# Altium integrated library NSC LDO.IntLib: 2590 symbols (part 38 of 64)
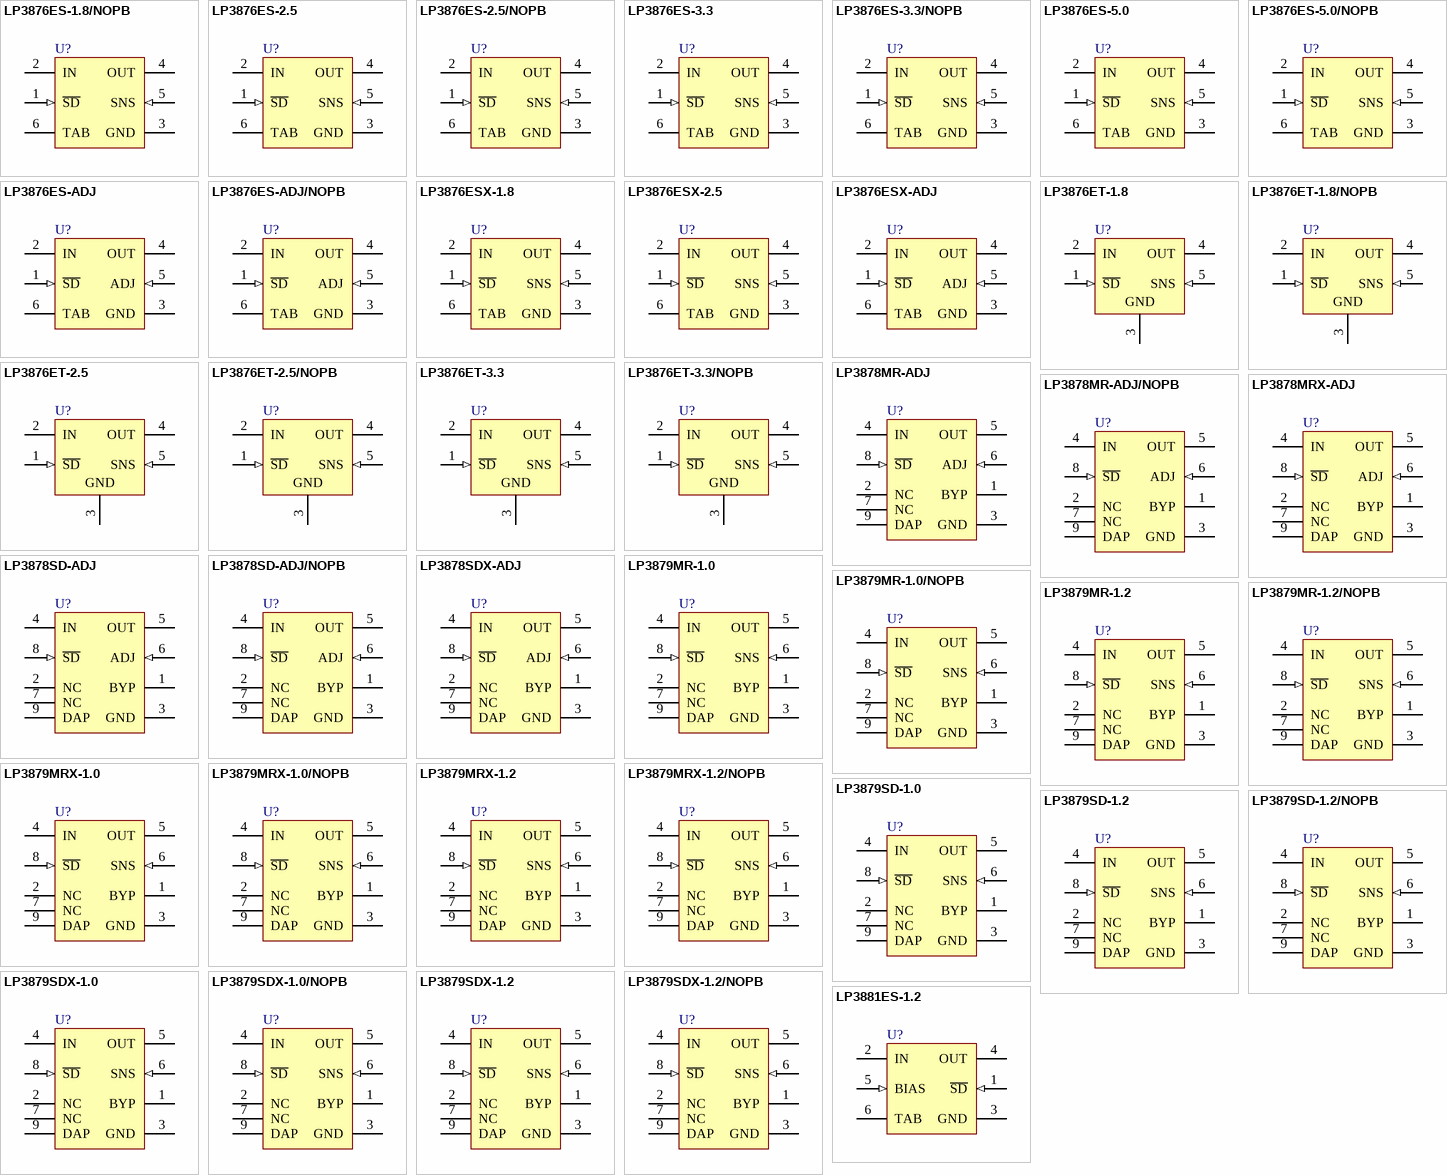
[diagram p102: symbols LP3876ES-1.8/NOPB to LP3881ES-1.2]

## LP3876ET-2.5/NOPB
designator U?
3A Fast Ultra Low Dropout Linear Regulator, 5-pin TO-220, Pb-Free; PartNumber: LP3876ET-2.5/NOPB; Manufacturer: National Semiconductor; PackageTopMarking: NSUZXYTTE#*LP3876ET*-2.5; PowerWise: N; CompType: LDO IC; Published: 1-Mar-2010; DatasheetVersion: Sep-2006; PackageVersion: revA, Oct-1989; PackageReference: T05D; Publisher: Altium Limited; PackageDescription: TO-220, Molded, Stagger Bend, 5 Lead; Supplier 1: Digi-Key; Supplier Part Number 1: LP3876ET-2.5-ND; RoHS: Y; PinCount: 5; ComponentLink1Description: LP3876 Datasheet; ComponentLink1URL: http://www.national.com/ds/LP/LP3876.pdf; ComponentLink2Description: LP3876 Web Page; ComponentLink2URL: http://www.national.com/pf/LP/LP3876.html; ComponentLink3Description: T05D Package Page; ComponentLink3URL: http://www.national.com/packaging/folders/t05d.html
footprint T05D (TO, Thru-Hole, Vertical, Heatsink Mounted; 5 Bent Staggered Leads; Body 10.3x8.6x4.6mm, Pitch 1.7 mm)
pins: 1 ~{SD} (in), 2 IN (power), 3 GND (power), 4 OUT (power), 5 SNS (in)

## LP3876ET-3.3
designator U?
3A Fast Ultra Low Dropout Linear Regulator, 5-pin TO-220; PartNumber: LP3876ET-3.3; Manufacturer: National Semiconductor; PackageTopMarking: NSUZXYTTE#*LP3876ET*-3.3; PowerWise: N; CompType: LDO IC; Published: 4-Dec-2008; DatasheetVersion: Sep-2006; PackageVersion: revA, Oct-1989; PackageReference: T05D; Publisher: Altium Limited; PackageDescription: TO-220, Molded, Stagger Bend, 5 Lead; Supplier 1: Farnell; Supplier Part Number 1: 8207038; RoHS: N; PinCount: 5; ComponentLink1Description: LP3876 Datasheet; ComponentLink1URL: http://www.national.com/ds/LP/LP3876.pdf; ComponentLink2Description: LP3876 Web Page; ComponentLink2URL: http://www.national.com/pf/LP/LP3876.html; ComponentLink3Description: T05D Package Page; ComponentLink3URL: http://www.national.com/packaging/folders/t05d.html
footprint T05D (TO, Thru-Hole, Vertical, Heatsink Mounted; 5 Bent Staggered Leads; Body 10.3x8.6x4.6mm, Pitch 1.7 mm)
pins: 1 ~{SD} (in), 2 IN (power), 3 GND (power), 4 OUT (power), 5 SNS (in)

## LP3876ET-3.3/NOPB
designator U?
3A Fast Ultra Low Dropout Linear Regulator, 5-pin TO-220, Pb-Free; PartNumber: LP3876ET-3.3/NOPB; Manufacturer: National Semiconductor; PackageTopMarking: NSUZXYTTE#*LP3876ET*-3.3; PowerWise: N; CompType: LDO IC; Published: 1-Mar-2010; DatasheetVersion: Sep-2006; PackageVersion: revA, Oct-1989; PackageReference: T05D; Publisher: Altium Limited; PackageDescription: TO-220, Molded, Stagger Bend, 5 Lead; Supplier 1: Digi-Key; Supplier Part Number 1: LP3876ET-3.3-ND; RoHS: Y; PinCount: 5; ComponentLink1Description: LP3876 Datasheet; ComponentLink1URL: http://www.national.com/ds/LP/LP3876.pdf; ComponentLink2Description: LP3876 Web Page; ComponentLink2URL: http://www.national.com/pf/LP/LP3876.html; ComponentLink3Description: T05D Package Page; ComponentLink3URL: http://www.national.com/packaging/folders/t05d.html
footprint T05D (TO, Thru-Hole, Vertical, Heatsink Mounted; 5 Bent Staggered Leads; Body 10.3x8.6x4.6mm, Pitch 1.7 mm)
pins: 1 ~{SD} (in), 2 IN (power), 3 GND (power), 4 OUT (power), 5 SNS (in)

## LP3878MR-ADJ
designator U?
Micropower 800mA Low Noise 'Ceramic Stable' Adjustable Voltage Regulator for 1V to 5V Applications, 8-pin PSOP; PartNumber: LP3878MR-ADJ; Manufacturer: National Semiconductor; PackageTopMarking: NSXYTT*3878*MRADJ; PowerWise: N; CompType: LDO IC; Published: 4-Dec-2008; DatasheetVersion: May-2005; PackageVersion: revD, Dec-2007; PackageReference: MRA08A; Publisher: Altium Limited; PackageDescription: Molded, PSOP .193 x .154 x .058in, 8 Lead, .050in Pitch; Supplier 1: Farnell; Supplier Part Number 1: 1286784; RoHS: N; PinCount: 8; Code_JEDEC: MS-012-AA; ComponentLink1Description: LP3878-ADJ Datasheet; ComponentLink1URL: http://www.national.com/ds/LP/LP3878-ADJ.pdf; ComponentLink2Description: LP3878-ADJ Web Page; ComponentLink2URL: http://www.national.com/pf/LP/LP3878-ADJ.html; ComponentLink3Description: MRA08A Package Page; ComponentLink3URL: http://www.national.com/packaging/folders/mra08a.html
footprint MRA08A_N (SOIC, 8-Leads, Body 4.9x3.9mm, Pitch 1.27mm, Exposed Pad, IPC Medium Density)
footprint MRA08A_L (SOIC, 8-Leads, Body 4.9x3.9mm, Pitch 1.27mm, Exposed Pad, IPC High Density)
footprint MRA08A_M (SOIC, 8-Leads, Body 4.9x3.9mm, Pitch 1.27mm, Exposed Pad, IPC Low Density)
pins: 1 BYP, 2 NC, 3 GND (power), 4 IN (power), 5 OUT (power), 6 ADJ (in), 7 NC, 8 ~{SD} (in), 9 DAP (power)

## LP3878MR-ADJ/NOPB
designator U?
Micropower 800mA Low Noise "Ceramic Stable" Adjustable Voltage Regulator for 1V to 5V Applications, 8-pin PSOP, Pb-Free; PartNumber: LP3878MR-ADJ/NOPB; Manufacturer: National Semiconductor; PackageTopMarking: NSXYTT*3878*MRADJ; PowerWise: N; CompType: LDO IC; Published: 1-Mar-2010; DatasheetVersion: May-2005; PackageVersion: revD, Dec-2007; PackageReference: MRA08A; Publisher: Altium Limited; PackageDescription: Molded, PSOP .193 x .154 x .058in, 8 Lead, .050in Pitch; Supplier 1: Digi-Key; Supplier Part Number 1: LP3878MR-ADJ-ND; Supplier 2: Farnell; Supplier Part Number 2: 1654349; RoHS: Y; PinCount: 8; Code_JEDEC: MS-012-AA; ComponentLink1Description: LP3878-ADJ Datasheet; ComponentLink1URL: http://www.national.com/ds/LP/LP3878-ADJ.pdf; ComponentLink2Description: LP3878-ADJ Web Page; ComponentLink2URL: http://www.national.com/pf/LP/LP3878-ADJ.html; ComponentLink3Description: MRA08A Package Page; ComponentLink3URL: http://www.national.com/packaging/folders/mra08a.html
footprint MRA08A_N (SOIC, 8-Leads, Body 4.9x3.9mm, Pitch 1.27mm, Exposed Pad, IPC Medium Density)
footprint MRA08A_L (SOIC, 8-Leads, Body 4.9x3.9mm, Pitch 1.27mm, Exposed Pad, IPC High Density)
footprint MRA08A_M (SOIC, 8-Leads, Body 4.9x3.9mm, Pitch 1.27mm, Exposed Pad, IPC Low Density)
pins: 1 BYP, 2 NC, 3 GND (power), 4 IN (power), 5 OUT (power), 6 ADJ (in), 7 NC, 8 ~{SD} (in), 9 DAP (power)

## LP3878MRX-ADJ
designator U?
Micropower 800mA Low Noise "Ceramic Stable" Adjustable Voltage Regulator for 1V to 5V Applications, 8-pin PSOP; PartNumber: LP3878MRX-ADJ; Manufacturer: National Semiconductor; PackageTopMarking: NSXYTT*3878*MRADJ; PowerWise: N; CompType: LDO IC; Published: 1-Mar-2010; DatasheetVersion: May-2005; PackageVersion: revD, Dec-2007; PackageReference: MRA08A; Publisher: Altium Limited; PackageDescription: Molded, PSOP .193 x .154 x .058in, 8 Lead, .050in Pitch; RoHS: N; PinCount: 8; Code_JEDEC: MS-012-AA; ComponentLink1Description: LP3878-ADJ Datasheet; ComponentLink1URL: http://www.national.com/ds/LP/LP3878-ADJ.pdf; ComponentLink2Description: LP3878-ADJ Web Page; ComponentLink2URL: http://www.national.com/pf/LP/LP3878-ADJ.html; ComponentLink3Description: MRA08A Package Page; ComponentLink3URL: http://www.national.com/packaging/folders/mra08a.html
footprint MRA08A_N (SOIC, 8-Leads, Body 4.9x3.9mm, Pitch 1.27mm, Exposed Pad, IPC Medium Density)
footprint MRA08A_L (SOIC, 8-Leads, Body 4.9x3.9mm, Pitch 1.27mm, Exposed Pad, IPC High Density)
footprint MRA08A_M (SOIC, 8-Leads, Body 4.9x3.9mm, Pitch 1.27mm, Exposed Pad, IPC Low Density)
pins: 1 BYP, 2 NC, 3 GND (power), 4 IN (power), 5 OUT (power), 6 ADJ (in), 7 NC, 8 ~{SD} (in), 9 DAP (power)

## LP3878SD-ADJ
designator U?
Micropower 800mA Low Noise 'Ceramic Stable' Adjustable Voltage Regulator for 1V to 5V Applications, 8-pin LLP; PartNumber: LP3878SD-ADJ; Manufacturer: National Semiconductor; PackageTopMarking: NS*UZXYTT*3878ADJ; PowerWise: N; CompType: LDO IC; Published: 4-Dec-2008; DatasheetVersion: May-2005; PackageVersion: revA, Jun-2003; PackageReference: SDC08A; Publisher: Altium Limited; PackageDescription: LLP, Plastic, Dual, 4 x 4 x 0.8mm Body, 8 Lead, 0.8mm Pitch, No Pullback; RoHS: N; PinCount: 8; ComponentLink1Description: LP3878-ADJ Datasheet; ComponentLink1URL: http://www.national.com/ds/LP/LP3878-ADJ.pdf; ComponentLink2Description: LP3878-ADJ Web Page; ComponentLink2URL: http://www.national.com/pf/LP/LP3878-ADJ.html; ComponentLink3Description: SDC08A Package Page; ComponentLink3URL: http://www.national.com/packaging/folders/sdc08a.html
footprint SDC08A (SON, 8-Leads, Body 4x4mm, Pitch 0.8mm, NSC Recommended)
pins: 1 BYP, 2 NC, 3 GND (power), 4 IN (power), 5 OUT (power), 6 ADJ (in), 7 NC, 8 ~{SD} (in), 9 DAP (power)

## LP3878SD-ADJ/NOPB
designator U?
Micropower 800mA Low Noise "Ceramic Stable" Adjustable Voltage Regulator for 1V to 5V Applications, 8-pin LLP, Pb-Free; PartNumber: LP3878SD-ADJ/NOPB; Manufacturer: National Semiconductor; PackageTopMarking: NS*UZXYTT*3878ADJ; PowerWise: N; CompType: LDO IC; Published: 1-Mar-2010; DatasheetVersion: May-2005; PackageVersion: revA, Jun-2003; PackageReference: SDC08A; Publisher: Altium Limited; PackageDescription: LLP, Plastic, Dual, 4 x 4 x 0.8mm Body, 8 Lead, 0.8mm Pitch, No Pullback; Supplier 1: Digi-Key; Supplier Part Number 1: LP3878SD-ADJTR-ND; Supplier 2: Digi-Key; Supplier Part Number 2: LP3878SD-ADJCT-ND; Supplier 3: Digi-Key; Supplier Part Number 3: LP3878SD-ADJDKR-ND; Supplier 4: Farnell; Supplier Part Number 4: 1685758; RoHS: Y; PinCount: 8; ComponentLink1Description: LP3878-ADJ Datasheet; ComponentLink1URL: http://www.national.com/ds/LP/LP3878-ADJ.pdf; ComponentLink2Description: LP3878-ADJ Web Page; ComponentLink2URL: http://www.national.com/pf/LP/LP3878-ADJ.html; ComponentLink3Description: SDC08A Package Page; ComponentLink3URL: http://www.national.com/packaging/folders/sdc08a.html
footprint SDC08A (SON, 8-Leads, Body 4x4mm, Pitch 0.8mm, NSC Recommended)
pins: 1 BYP, 2 NC, 3 GND (power), 4 IN (power), 5 OUT (power), 6 ADJ (in), 7 NC, 8 ~{SD} (in), 9 DAP (power)

## LP3878SDX-ADJ
designator U?
Micropower 800mA Low Noise "Ceramic Stable" Adjustable Voltage Regulator for 1V to 5V Applications, 8-pin LLP; PartNumber: LP3878SDX-ADJ; Manufacturer: National Semiconductor; PackageTopMarking: NS*UZXYTT*3878ADJ; PowerWise: N; CompType: LDO IC; Published: 1-Mar-2010; DatasheetVersion: May-2005; PackageVersion: revA, Jun-2003; PackageReference: SDC08A; Publisher: Altium Limited; PackageDescription: LLP, Plastic, Dual, 4 x 4 x 0.8mm Body, 8 Lead, 0.8mm Pitch, No Pullback; RoHS: N; PinCount: 8; ComponentLink1Description: LP3878-ADJ Datasheet; ComponentLink1URL: http://www.national.com/ds/LP/LP3878-ADJ.pdf; ComponentLink2Description: LP3878-ADJ Web Page; ComponentLink2URL: http://www.national.com/pf/LP/LP3878-ADJ.html; ComponentLink3Description: SDC08A Package Page; ComponentLink3URL: http://www.national.com/packaging/folders/sdc08a.html
footprint SDC08A (SON, 8-Leads, Body 4x4mm, Pitch 0.8mm, NSC Recommended)
pins: 1 BYP, 2 NC, 3 GND (power), 4 IN (power), 5 OUT (power), 6 ADJ (in), 7 NC, 8 ~{SD} (in), 9 DAP (power)

## LP3879MR-1.0
designator U?
Micropower 800mA Low Noise 'Ceramic Stable' Voltage Regulator for Low Voltage Applications, 8-pin PSOP; PartNumber: LP3879MR-1.0; Manufacturer: National Semiconductor; PackageTopMarking: NSXYTT*3879*MR1.0; PowerWise: N; CompType: LDO IC; Published: 4-Dec-2008; DatasheetVersion: Jun-2006; PackageVersion: revD, Dec-2007; PackageReference: MRA08A; Publisher: Altium Limited; PackageDescription: Molded, PSOP .193 x .154 x .058in, 8 Lead, .050in Pitch; Supplier 1: Farnell; Supplier Part Number 1: 1554782; RoHS: N; PinCount: 8; Code_JEDEC: MS-012-AA; ComponentLink1Description: LP3879 Datasheet; ComponentLink1URL: http://www.national.com/ds/LP/LP3879.pdf; ComponentLink2Description: LP3879 Web Page; ComponentLink2URL: http://www.national.com/pf/LP/LP3879.html; ComponentLink3Description: MRA08A Package Page; ComponentLink3URL: http://www.national.com/packaging/folders/mra08a.html
footprint MRA08A_N (SOIC, 8-Leads, Body 4.9x3.9mm, Pitch 1.27mm, Exposed Pad, IPC Medium Density)
footprint MRA08A_L (SOIC, 8-Leads, Body 4.9x3.9mm, Pitch 1.27mm, Exposed Pad, IPC High Density)
footprint MRA08A_M (SOIC, 8-Leads, Body 4.9x3.9mm, Pitch 1.27mm, Exposed Pad, IPC Low Density)
pins: 1 BYP, 2 NC, 3 GND (power), 4 IN (power), 5 OUT (power), 6 SNS (in), 7 NC, 8 ~{SD} (in), 9 DAP (power)

## LP3879MR-1.0/NOPB
designator U?
Micropower 800mA Low Noise 'Ceramic Stable' Voltage Regulator for Low Voltage Applications, 8-pin PSOP, Pb-Free; PartNumber: LP3879MR-1.0/NOPB; Manufacturer: National Semiconductor; PackageTopMarking: NSXYTT*3879*MR1.0; PowerWise: N; CompType: LDO IC; Published: 1-Mar-2010; DatasheetVersion: Jun-2006; PackageVersion: revD, Dec-2007; PackageReference: MRA08A; Publisher: Altium Limited; PackageDescription: Molded, PSOP .193 x .154 x .058in, 8 Lead, .050in Pitch; Supplier 1: Digi-Key; Supplier Part Number 1: LP3879MR-1.0-ND; Supplier 2: Farnell; Supplier Part Number 2: 1559835; RoHS: Y; PinCount: 8; Code_JEDEC: MS-012-AA; ComponentLink1Description: LP3879 Datasheet; ComponentLink1URL: http://www.national.com/ds/LP/LP3879.pdf; ComponentLink2Description: LP3879 Web Page; ComponentLink2URL: http://www.national.com/pf/LP/LP3879.html; ComponentLink3Description: MRA08A Package Page; ComponentLink3URL: http://www.national.com/packaging/folders/mra08a.html
footprint MRA08A_N (SOIC, 8-Leads, Body 4.9x3.9mm, Pitch 1.27mm, Exposed Pad, IPC Medium Density)
footprint MRA08A_L (SOIC, 8-Leads, Body 4.9x3.9mm, Pitch 1.27mm, Exposed Pad, IPC High Density)
footprint MRA08A_M (SOIC, 8-Leads, Body 4.9x3.9mm, Pitch 1.27mm, Exposed Pad, IPC Low Density)
pins: 1 BYP, 2 NC, 3 GND (power), 4 IN (power), 5 OUT (power), 6 SNS (in), 7 NC, 8 ~{SD} (in), 9 DAP (power)

## LP3879MR-1.2
designator U?
Micropower 800mA Low Noise 'Ceramic Stable' Voltage Regulator for Low Voltage Applications, 8-pin PSOP; PartNumber: LP3879MR-1.2; Manufacturer: National Semiconductor; PackageTopMarking: NSXYTT*LP3879*MR1.2; PowerWise: N; CompType: LDO IC; Published: 4-Dec-2008; DatasheetVersion: Jun-2006; PackageVersion: revD, Dec-2007; PackageReference: MRA08A; Publisher: Altium Limited; PackageDescription: Molded, PSOP .193 x .154 x .058in, 8 Lead, .050in Pitch; Supplier 1: Farnell; Supplier Part Number 1: 1554783; RoHS: N; PinCount: 8; Code_JEDEC: MS-012-AA; ComponentLink1Description: LP3879 Datasheet; ComponentLink1URL: http://www.national.com/ds/LP/LP3879.pdf; ComponentLink2Description: LP3879 Web Page; ComponentLink2URL: http://www.national.com/pf/LP/LP3879.html; ComponentLink3Description: MRA08A Package Page; ComponentLink3URL: http://www.national.com/packaging/folders/mra08a.html
footprint MRA08A_N (SOIC, 8-Leads, Body 4.9x3.9mm, Pitch 1.27mm, Exposed Pad, IPC Medium Density)
footprint MRA08A_L (SOIC, 8-Leads, Body 4.9x3.9mm, Pitch 1.27mm, Exposed Pad, IPC High Density)
footprint MRA08A_M (SOIC, 8-Leads, Body 4.9x3.9mm, Pitch 1.27mm, Exposed Pad, IPC Low Density)
pins: 1 BYP, 2 NC, 3 GND (power), 4 IN (power), 5 OUT (power), 6 SNS (in), 7 NC, 8 ~{SD} (in), 9 DAP (power)

## LP3879MR-1.2/NOPB
designator U?
Micropower 800mA Low Noise 'Ceramic Stable' Voltage Regulator for Low Voltage Applications, 8-pin PSOP, Pb-Free; PartNumber: LP3879MR-1.2/NOPB; Manufacturer: National Semiconductor; PackageTopMarking: NSXYTT*LP3879*MR1.2; PowerWise: N; CompType: LDO IC; Published: 1-Mar-2010; DatasheetVersion: Jun-2006; PackageVersion: revD, Dec-2007; PackageReference: MRA08A; Publisher: Altium Limited; PackageDescription: Molded, PSOP .193 x .154 x .058in, 8 Lead, .050in Pitch; Supplier 1: Digi-Key; Supplier Part Number 1: LP3879MR-1.2-ND; Supplier 2: Farnell; Supplier Part Number 2: 1559877; RoHS: Y; PinCount: 8; Code_JEDEC: MS-012-AA; ComponentLink1Description: LP3879 Datasheet; ComponentLink1URL: http://www.national.com/ds/LP/LP3879.pdf; ComponentLink2Description: LP3879 Web Page; ComponentLink2URL: http://www.national.com/pf/LP/LP3879.html; ComponentLink3Description: MRA08A Package Page; ComponentLink3URL: http://www.national.com/packaging/folders/mra08a.html
footprint MRA08A_N (SOIC, 8-Leads, Body 4.9x3.9mm, Pitch 1.27mm, Exposed Pad, IPC Medium Density)
footprint MRA08A_L (SOIC, 8-Leads, Body 4.9x3.9mm, Pitch 1.27mm, Exposed Pad, IPC High Density)
footprint MRA08A_M (SOIC, 8-Leads, Body 4.9x3.9mm, Pitch 1.27mm, Exposed Pad, IPC Low Density)
pins: 1 BYP, 2 NC, 3 GND (power), 4 IN (power), 5 OUT (power), 6 SNS (in), 7 NC, 8 ~{SD} (in), 9 DAP (power)

## LP3879MRX-1.0
designator U?
Micropower 800mA Low Noise 'Ceramic Stable' Voltage Regulator for Low Voltage Applications, 8-pin PSOP; PartNumber: LP3879MRX-1.0; Manufacturer: National Semiconductor; PackageTopMarking: NSXYTT*3879*MR1.0; PowerWise: N; CompType: LDO IC; Published: 1-Mar-2010; DatasheetVersion: Jun-2006; PackageVersion: revD, Dec-2007; PackageReference: MRA08A; Publisher: Altium Limited; PackageDescription: Molded, PSOP .193 x .154 x .058in, 8 Lead, .050in Pitch; RoHS: N; PinCount: 8; Code_JEDEC: MS-012-AA; ComponentLink1Description: LP3879 Datasheet; ComponentLink1URL: http://www.national.com/ds/LP/LP3879.pdf; ComponentLink2Description: LP3879 Web Page; ComponentLink2URL: http://www.national.com/pf/LP/LP3879.html; ComponentLink3Description: MRA08A Package Page; ComponentLink3URL: http://www.national.com/packaging/folders/mra08a.html
footprint MRA08A_N (SOIC, 8-Leads, Body 4.9x3.9mm, Pitch 1.27mm, Exposed Pad, IPC Medium Density)
footprint MRA08A_L (SOIC, 8-Leads, Body 4.9x3.9mm, Pitch 1.27mm, Exposed Pad, IPC High Density)
footprint MRA08A_M (SOIC, 8-Leads, Body 4.9x3.9mm, Pitch 1.27mm, Exposed Pad, IPC Low Density)
pins: 1 BYP, 2 NC, 3 GND (power), 4 IN (power), 5 OUT (power), 6 SNS (in), 7 NC, 8 ~{SD} (in), 9 DAP (power)

## LP3879MRX-1.0/NOPB
designator U?
Micropower 800mA Low Noise 'Ceramic Stable' Voltage Regulator for Low Voltage Applications, 8-pin PSOP, Pb-Free; PartNumber: LP3879MRX-1.0/NOPB; Manufacturer: National Semiconductor; PackageTopMarking: NSXYTT*3879*MR1.0; PowerWise: N; CompType: LDO IC; Published: 1-Mar-2010; DatasheetVersion: Jun-2006; PackageVersion: revD, Dec-2007; PackageReference: MRA08A; Publisher: Altium Limited; PackageDescription: Molded, PSOP .193 x .154 x .058in, 8 Lead, .050in Pitch; Supplier 1: Digi-Key; Supplier Part Number 1: LP3879MRX-1.0-ND; RoHS: Y; PinCount: 8; Code_JEDEC: MS-012-AA; ComponentLink1Description: LP3879 Datasheet; ComponentLink1URL: http://www.national.com/ds/LP/LP3879.pdf; ComponentLink2Description: LP3879 Web Page; ComponentLink2URL: http://www.national.com/pf/LP/LP3879.html; ComponentLink3Description: MRA08A Package Page; ComponentLink3URL: http://www.national.com/packaging/folders/mra08a.html
footprint MRA08A_N (SOIC, 8-Leads, Body 4.9x3.9mm, Pitch 1.27mm, Exposed Pad, IPC Medium Density)
footprint MRA08A_L (SOIC, 8-Leads, Body 4.9x3.9mm, Pitch 1.27mm, Exposed Pad, IPC High Density)
footprint MRA08A_M (SOIC, 8-Leads, Body 4.9x3.9mm, Pitch 1.27mm, Exposed Pad, IPC Low Density)
pins: 1 BYP, 2 NC, 3 GND (power), 4 IN (power), 5 OUT (power), 6 SNS (in), 7 NC, 8 ~{SD} (in), 9 DAP (power)

## LP3879MRX-1.2
designator U?
Micropower 800mA Low Noise 'Ceramic Stable' Voltage Regulator for Low Voltage Applications, 8-pin PSOP; PartNumber: LP3879MRX-1.2; Manufacturer: National Semiconductor; PackageTopMarking: NSXYTT*LP3879*MR1.2; PowerWise: N; CompType: LDO IC; Published: 1-Mar-2010; DatasheetVersion: Jun-2006; PackageVersion: revD, Dec-2007; PackageReference: MRA08A; Publisher: Altium Limited; PackageDescription: Molded, PSOP .193 x .154 x .058in, 8 Lead, .050in Pitch; RoHS: N; PinCount: 8; Code_JEDEC: MS-012-AA; ComponentLink1Description: LP3879 Datasheet; ComponentLink1URL: http://www.national.com/ds/LP/LP3879.pdf; ComponentLink2Description: LP3879 Web Page; ComponentLink2URL: http://www.national.com/pf/LP/LP3879.html; ComponentLink3Description: MRA08A Package Page; ComponentLink3URL: http://www.national.com/packaging/folders/mra08a.html
footprint MRA08A_N (SOIC, 8-Leads, Body 4.9x3.9mm, Pitch 1.27mm, Exposed Pad, IPC Medium Density)
footprint MRA08A_L (SOIC, 8-Leads, Body 4.9x3.9mm, Pitch 1.27mm, Exposed Pad, IPC High Density)
footprint MRA08A_M (SOIC, 8-Leads, Body 4.9x3.9mm, Pitch 1.27mm, Exposed Pad, IPC Low Density)
pins: 1 BYP, 2 NC, 3 GND (power), 4 IN (power), 5 OUT (power), 6 SNS (in), 7 NC, 8 ~{SD} (in), 9 DAP (power)

## LP3879MRX-1.2/NOPB
designator U?
Micropower 800mA Low Noise 'Ceramic Stable' Voltage Regulator for Low Voltage Applications, 8-pin PSOP, Pb-Free; PartNumber: LP3879MRX-1.2/NOPB; Manufacturer: National Semiconductor; PackageTopMarking: NSXYTT*LP3879*MR1.2; PowerWise: N; CompType: LDO IC; Published: 1-Mar-2010; DatasheetVersion: Jun-2006; PackageVersion: revD, Dec-2007; PackageReference: MRA08A; Publisher: Altium Limited; PackageDescription: Molded, PSOP .193 x .154 x .058in, 8 Lead, .050in Pitch; Supplier 1: Digi-Key; Supplier Part Number 1: LP3879MRX-1.2-ND; RoHS: Y; PinCount: 8; Code_JEDEC: MS-012-AA; ComponentLink1Description: LP3879 Datasheet; ComponentLink1URL: http://www.national.com/ds/LP/LP3879.pdf; ComponentLink2Description: LP3879 Web Page; ComponentLink2URL: http://www.national.com/pf/LP/LP3879.html; ComponentLink3Description: MRA08A Package Page; ComponentLink3URL: http://www.national.com/packaging/folders/mra08a.html
footprint MRA08A_N (SOIC, 8-Leads, Body 4.9x3.9mm, Pitch 1.27mm, Exposed Pad, IPC Medium Density)
footprint MRA08A_L (SOIC, 8-Leads, Body 4.9x3.9mm, Pitch 1.27mm, Exposed Pad, IPC High Density)
footprint MRA08A_M (SOIC, 8-Leads, Body 4.9x3.9mm, Pitch 1.27mm, Exposed Pad, IPC Low Density)
pins: 1 BYP, 2 NC, 3 GND (power), 4 IN (power), 5 OUT (power), 6 SNS (in), 7 NC, 8 ~{SD} (in), 9 DAP (power)

## LP3879SD-1.0
designator U?
Micropower 800mA Low Noise 'Ceramic Stable' Voltage Regulator for Low Voltage Applications, 8-pin LLP; PartNumber: LP3879SD-1.0; Manufacturer: National Semiconductor; PackageTopMarking: NS*UZXYTT*79SD1.0; PowerWise: N; CompType: LDO IC; Published: 4-Dec-2008; DatasheetVersion: Jun-2006; PackageVersion: revA, Jun-2003; PackageReference: SDC08A; Publisher: Altium Limited; PackageDescription: LLP, Plastic, Dual, 4 x 4 x 0.8mm Body, 8 Lead, 0.8mm Pitch, No Pullback; RoHS: N; PinCount: 8; ComponentLink1Description: LP3879 Datasheet; ComponentLink1URL: http://www.national.com/ds/LP/LP3879.pdf; ComponentLink2Description: LP3879 Web Page; ComponentLink2URL: http://www.national.com/pf/LP/LP3879.html; ComponentLink3Description: SDC08A Package Page; ComponentLink3URL: http://www.national.com/packaging/folders/sdc08a.html
footprint SDC08A (SON, 8-Leads, Body 4x4mm, Pitch 0.8mm, NSC Recommended)
pins: 1 BYP, 2 NC, 3 GND (power), 4 IN (power), 5 OUT (power), 6 SNS (in), 7 NC, 8 ~{SD} (in), 9 DAP (power)

## LP3879SD-1.2
designator U?
Micropower 800mA Low Noise 'Ceramic Stable' Voltage Regulator for Low Voltage Applications, 8-pin LLP; PartNumber: LP3879SD-1.2; Manufacturer: National Semiconductor; PackageTopMarking: NS*UZXYTT*79SD1.2; PowerWise: N; CompType: LDO IC; Published: 4-Dec-2008; DatasheetVersion: Jun-2006; PackageVersion: revA, Jun-2003; PackageReference: SDC08A; Publisher: Altium Limited; PackageDescription: LLP, Plastic, Dual, 4 x 4 x 0.8mm Body, 8 Lead, 0.8mm Pitch, No Pullback; RoHS: N; PinCount: 8; ComponentLink1Description: LP3879 Datasheet; ComponentLink1URL: http://www.national.com/ds/LP/LP3879.pdf; ComponentLink2Description: LP3879 Web Page; ComponentLink2URL: http://www.national.com/pf/LP/LP3879.html; ComponentLink3Description: SDC08A Package Page; ComponentLink3URL: http://www.national.com/packaging/folders/sdc08a.html
footprint SDC08A (SON, 8-Leads, Body 4x4mm, Pitch 0.8mm, NSC Recommended)
pins: 1 BYP, 2 NC, 3 GND (power), 4 IN (power), 5 OUT (power), 6 SNS (in), 7 NC, 8 ~{SD} (in), 9 DAP (power)

## LP3879SD-1.2/NOPB
designator U?
Micropower 800mA Low Noise 'Ceramic Stable' Voltage Regulator for Low Voltage Applications, 8-pin LLP, Pb-Free; PartNumber: LP3879SD-1.2/NOPB; Manufacturer: National Semiconductor; PackageTopMarking: NS*UZXYTT*79SD1.2; PowerWise: N; CompType: LDO IC; Published: 1-Mar-2010; DatasheetVersion: Jun-2006; PackageVersion: revA, Jun-2003; PackageReference: SDC08A; Publisher: Altium Limited; PackageDescription: LLP, Plastic, Dual, 4 x 4 x 0.8mm Body, 8 Lead, 0.8mm Pitch, No Pullback; Supplier 1: Digi-Key; Supplier Part Number 1: LP3879SD-1.2TR-ND; Supplier 2: Digi-Key; Supplier Part Number 2: LP3879SD-1.2CT-ND; Supplier 3: Digi-Key; Supplier Part Number 3: LP3879SD-1.2DKR-ND; Supplier 4: Farnell; Supplier Part Number 4: 1685772; RoHS: Y; PinCount: 8; ComponentLink1Description: LP3879 Datasheet; ComponentLink1URL: http://www.national.com/ds/LP/LP3879.pdf; ComponentLink2Description: LP3879 Web Page; ComponentLink2URL: http://www.national.com/pf/LP/LP3879.html; ComponentLink3Description: SDC08A Package Page; ComponentLink3URL: http://www.national.com/packaging/folders/sdc08a.html
footprint SDC08A (SON, 8-Leads, Body 4x4mm, Pitch 0.8mm, NSC Recommended)
pins: 1 BYP, 2 NC, 3 GND (power), 4 IN (power), 5 OUT (power), 6 SNS (in), 7 NC, 8 ~{SD} (in), 9 DAP (power)

## LP3879SDX-1.0
designator U?
Micropower 800mA Low Noise 'Ceramic Stable' Voltage Regulator for Low Voltage Applications, 8-pin LLP; PartNumber: LP3879SDX-1.0; Manufacturer: National Semiconductor; PackageTopMarking: NS*UZXYTT*79SD1.0; PowerWise: N; CompType: LDO IC; Published: 1-Mar-2010; DatasheetVersion: Jun-2006; PackageVersion: revA, Jun-2003; PackageReference: SDC08A; Publisher: Altium Limited; PackageDescription: LLP, Plastic, Dual, 4 x 4 x 0.8mm Body, 8 Lead, 0.8mm Pitch, No Pullback; RoHS: N; PinCount: 8; ComponentLink1Description: LP3879 Datasheet; ComponentLink1URL: http://www.national.com/ds/LP/LP3879.pdf; ComponentLink2Description: LP3879 Web Page; ComponentLink2URL: http://www.national.com/pf/LP/LP3879.html; ComponentLink3Description: SDC08A Package Page; ComponentLink3URL: http://www.national.com/packaging/folders/sdc08a.html
footprint SDC08A (SON, 8-Leads, Body 4x4mm, Pitch 0.8mm, NSC Recommended)
pins: 1 BYP, 2 NC, 3 GND (power), 4 IN (power), 5 OUT (power), 6 SNS (in), 7 NC, 8 ~{SD} (in), 9 DAP (power)

## LP3879SDX-1.0/NOPB
designator U?
Micropower 800mA Low Noise 'Ceramic Stable' Voltage Regulator for Low Voltage Applications, 8-pin LLP, Pb-Free; PartNumber: LP3879SDX-1.0/NOPB; Manufacturer: National Semiconductor; PackageTopMarking: NS*UZXYTT*79SD1.0; PowerWise: N; CompType: LDO IC; Published: 1-Mar-2010; DatasheetVersion: Jun-2006; PackageVersion: revA, Jun-2003; PackageReference: SDC08A; Publisher: Altium Limited; PackageDescription: LLP, Plastic, Dual, 4 x 4 x 0.8mm Body, 8 Lead, 0.8mm Pitch, No Pullback; Supplier 1: Digi-Key; Supplier Part Number 1: LP3879SDX-1.0-ND; RoHS: Y; PinCount: 8; ComponentLink1Description: LP3879 Datasheet; ComponentLink1URL: http://www.national.com/ds/LP/LP3879.pdf; ComponentLink2Description: LP3879 Web Page; ComponentLink2URL: http://www.national.com/pf/LP/LP3879.html; ComponentLink3Description: SDC08A Package Page; ComponentLink3URL: http://www.national.com/packaging/folders/sdc08a.html
footprint SDC08A (SON, 8-Leads, Body 4x4mm, Pitch 0.8mm, NSC Recommended)
pins: 1 BYP, 2 NC, 3 GND (power), 4 IN (power), 5 OUT (power), 6 SNS (in), 7 NC, 8 ~{SD} (in), 9 DAP (power)

## LP3879SDX-1.2
designator U?
Micropower 800mA Low Noise 'Ceramic Stable' Voltage Regulator for Low Voltage Applications, 8-pin LLP; PartNumber: LP3879SDX-1.2; Manufacturer: National Semiconductor; PackageTopMarking: NS*UZXYTT*79SD1.2; PowerWise: N; CompType: LDO IC; Published: 1-Mar-2010; DatasheetVersion: Jun-2006; PackageVersion: revA, Jun-2003; PackageReference: SDC08A; Publisher: Altium Limited; PackageDescription: LLP, Plastic, Dual, 4 x 4 x 0.8mm Body, 8 Lead, 0.8mm Pitch, No Pullback; RoHS: N; PinCount: 8; ComponentLink1Description: LP3879 Datasheet; ComponentLink1URL: http://www.national.com/ds/LP/LP3879.pdf; ComponentLink2Description: LP3879 Web Page; ComponentLink2URL: http://www.national.com/pf/LP/LP3879.html; ComponentLink3Description: SDC08A Package Page; ComponentLink3URL: http://www.national.com/packaging/folders/sdc08a.html
footprint SDC08A (SON, 8-Leads, Body 4x4mm, Pitch 0.8mm, NSC Recommended)
pins: 1 BYP, 2 NC, 3 GND (power), 4 IN (power), 5 OUT (power), 6 SNS (in), 7 NC, 8 ~{SD} (in), 9 DAP (power)

## LP3879SDX-1.2/NOPB
designator U?
Micropower 800mA Low Noise 'Ceramic Stable' Voltage Regulator for Low Voltage Applications, 8-pin LLP, Pb-Free; PartNumber: LP3879SDX-1.2/NOPB; Manufacturer: National Semiconductor; PackageTopMarking: NS*UZXYTT*79SD1.2; PowerWise: N; CompType: LDO IC; Published: 1-Mar-2010; DatasheetVersion: Jun-2006; PackageVersion: revA, Jun-2003; PackageReference: SDC08A; Publisher: Altium Limited; PackageDescription: LLP, Plastic, Dual, 4 x 4 x 0.8mm Body, 8 Lead, 0.8mm Pitch, No Pullback; Supplier 1: Digi-Key; Supplier Part Number 1: LP3879SDX-1.2-ND; RoHS: Y; PinCount: 8; ComponentLink1Description: LP3879 Datasheet; ComponentLink1URL: http://www.national.com/ds/LP/LP3879.pdf; ComponentLink2Description: LP3879 Web Page; ComponentLink2URL: http://www.national.com/pf/LP/LP3879.html; ComponentLink3Description: SDC08A Package Page; ComponentLink3URL: http://www.national.com/packaging/folders/sdc08a.html
footprint SDC08A (SON, 8-Leads, Body 4x4mm, Pitch 0.8mm, NSC Recommended)
pins: 1 BYP, 2 NC, 3 GND (power), 4 IN (power), 5 OUT (power), 6 SNS (in), 7 NC, 8 ~{SD} (in), 9 DAP (power)

## LP3881ES-1.2
designator U?
0.8A Fast-Response Ultra Low Dropout Linear Regulators, 5-pin TO-263; PartNumber: LP3881ES-1.2; Manufacturer: National Semiconductor; PackageTopMarking: NSUZXYTTE#*LP3881ES*-1.2; PowerWise: N; CompType: LDO IC; Published: 4-Dec-2008; DatasheetVersion: Jun-2006; PackageVersion: revD, Apr-2005; PackageReference: TS5B; Publisher: Altium Limited; PackageDescription: TO-263, Molded, .400 x .390 x .180in, 5 Lead, .067in Pitch, Surface Mount; Supplier 1: Farnell; Supplier Part Number 1: 8207054; RoHS: N; PinCount: 5; Code_JEDEC: MO-169-AB; ComponentLink1Description: LP3881 Datasheet; ComponentLink1URL: http://www.national.com/ds/LP/LP3881.pdf; ComponentLink2Description: LP3881 Web Page; ComponentLink2URL: http://www.national.com/pf/LP/LP3881.html; ComponentLink3Description: TS5B Package Page; ComponentLink3URL: http://www.national.com/packaging/folders/ts5b.html
footprint TS5B_N (D2-PAK, 6-Leads, Body 8.6x10.2mm, Pitch 1.7mm, Lead Span 14.1mm, IPC Medium Density)
footprint TS5B_L (D2-PAK, 6-Leads, Body 8.6x10.2mm, Pitch 1.7mm, Lead Span 14.1mm, IPC High Density)
footprint TS5B_M (D2-PAK, 6-Leads, Body 8.6x10.2mm, Pitch 1.7mm, Lead Span 14.1mm, IPC Low Density)
pins: 1 ~{SD} (in), 2 IN (power), 3 GND (power), 4 OUT (power), 5 BIAS (in), 6 TAB (power)

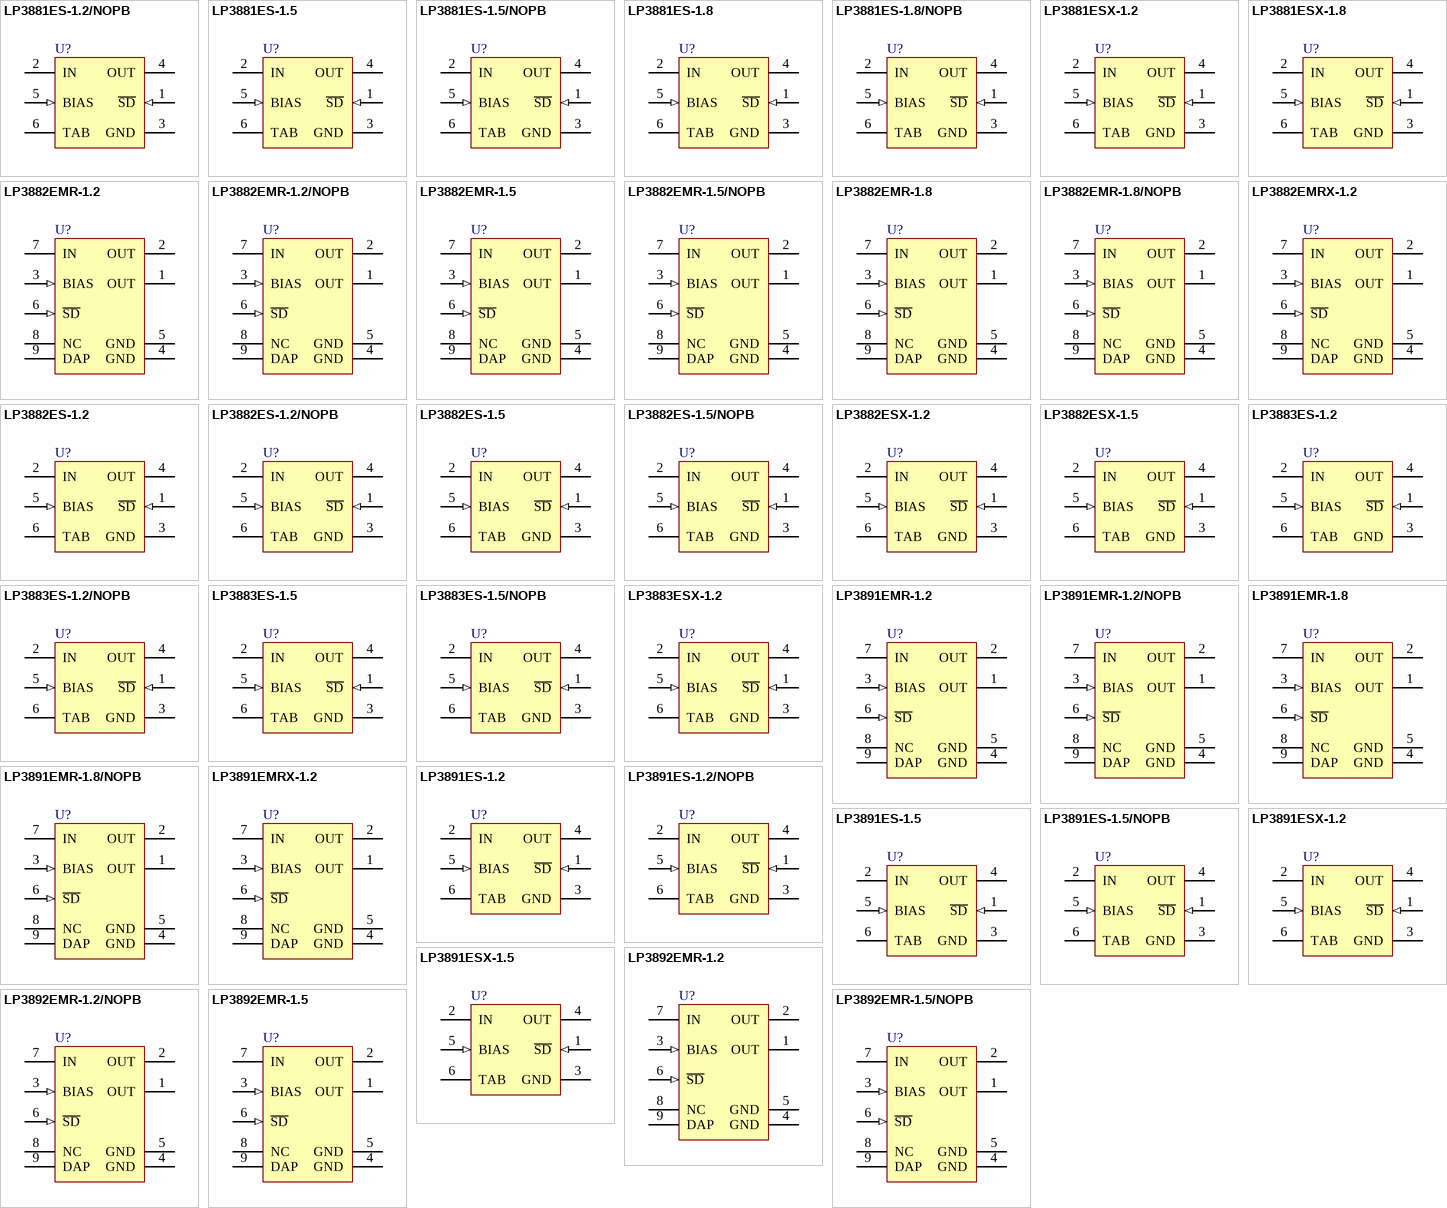
[diagram p39: symbols LP3881ES-1.2/NOPB to LP3892EMR-1.5/NOPB]

## LP3881ES-1.2/NOPB
designator U?
0.8A Fast-Response Ultra Low Dropout Linear Regulators, 5-pin TO-263, Pb-Free; PartNumber: LP3881ES-1.2/NOPB; Manufacturer: National Semiconductor; PackageTopMarking: NSUZXYTTE#*LP3881ES*-1.2; PowerWise: N; CompType: LDO IC; Published: 1-Mar-2010; DatasheetVersion: Jun-2006; PackageVersion: revD, Apr-2005; PackageReference: TS5B; Publisher: Altium Limited; PackageDescription: TO-263, Molded, .400 x .390 x .180in, 5 Lead, .067in Pitch, Surface Mount; Supplier 1: Digi-Key; Supplier Part Number 1: LP3881ES-1.2-ND; Supplier 2: Farnell; Supplier Part Number 2: 1559684; RoHS: Y; PinCount: 5; Code_JEDEC: MO-169-AB; ComponentLink1Description: LP3881 Datasheet; ComponentLink1URL: http://www.national.com/ds/LP/LP3881.pdf; ComponentLink2Description: LP3881 Web Page; ComponentLink2URL: http://www.national.com/pf/LP/LP3881.html; ComponentLink3Description: TS5B Package Page; ComponentLink3URL: http://www.national.com/packaging/folders/ts5b.html
footprint TS5B_N (D2-PAK, 6-Leads, Body 8.6x10.2mm, Pitch 1.7mm, Lead Span 14.1mm, IPC Medium Density)
footprint TS5B_L (D2-PAK, 6-Leads, Body 8.6x10.2mm, Pitch 1.7mm, Lead Span 14.1mm, IPC High Density)
footprint TS5B_M (D2-PAK, 6-Leads, Body 8.6x10.2mm, Pitch 1.7mm, Lead Span 14.1mm, IPC Low Density)
pins: 1 ~{SD} (in), 2 IN (power), 3 GND (power), 4 OUT (power), 5 BIAS (in), 6 TAB (power)

## LP3881ES-1.5
designator U?
0.8A Fast-Response Ultra Low Dropout Linear Regulators, 5-pin TO-263; PartNumber: LP3881ES-1.5; Manufacturer: National Semiconductor; PackageTopMarking: NSUZXYTTE#*LP3881ES*-1.5; PowerWise: N; CompType: LDO IC; Published: 4-Dec-2008; DatasheetVersion: Jun-2006; PackageVersion: revD, Apr-2005; PackageReference: TS5B; Publisher: Altium Limited; PackageDescription: TO-263, Molded, .400 x .390 x .180in, 5 Lead, .067in Pitch, Surface Mount; Supplier 1: Farnell; Supplier Part Number 1: 8207062; RoHS: N; PinCount: 5; Code_JEDEC: MO-169-AB; ComponentLink1Description: LP3881 Datasheet; ComponentLink1URL: http://www.national.com/ds/LP/LP3881.pdf; ComponentLink2Description: LP3881 Web Page; ComponentLink2URL: http://www.national.com/pf/LP/LP3881.html; ComponentLink3Description: TS5B Package Page; ComponentLink3URL: http://www.national.com/packaging/folders/ts5b.html
footprint TS5B_N (D2-PAK, 6-Leads, Body 8.6x10.2mm, Pitch 1.7mm, Lead Span 14.1mm, IPC Medium Density)
footprint TS5B_L (D2-PAK, 6-Leads, Body 8.6x10.2mm, Pitch 1.7mm, Lead Span 14.1mm, IPC High Density)
footprint TS5B_M (D2-PAK, 6-Leads, Body 8.6x10.2mm, Pitch 1.7mm, Lead Span 14.1mm, IPC Low Density)
pins: 1 ~{SD} (in), 2 IN (power), 3 GND (power), 4 OUT (power), 5 BIAS (in), 6 TAB (power)

## LP3881ES-1.5/NOPB
designator U?
0.8A Fast-Response Ultra Low Dropout Linear Regulators, 5-pin TO-263, Pb-Free; PartNumber: LP3881ES-1.5/NOPB; Manufacturer: National Semiconductor; PackageTopMarking: NSUZXYTTE#*LP3881ES*-1.5; PowerWise: N; CompType: LDO IC; Published: 1-Mar-2010; DatasheetVersion: Jun-2006; PackageVersion: revD, Apr-2005; PackageReference: TS5B; Publisher: Altium Limited; PackageDescription: TO-263, Molded, .400 x .390 x .180in, 5 Lead, .067in Pitch, Surface Mount; Supplier 1: Digi-Key; Supplier Part Number 1: LP3881ES-1.5-ND; RoHS: Y; PinCount: 5; Code_JEDEC: MO-169-AB; ComponentLink1Description: LP3881 Datasheet; ComponentLink1URL: http://www.national.com/ds/LP/LP3881.pdf; ComponentLink2Description: LP3881 Web Page; ComponentLink2URL: http://www.national.com/pf/LP/LP3881.html; ComponentLink3Description: TS5B Package Page; ComponentLink3URL: http://www.national.com/packaging/folders/ts5b.html
footprint TS5B_N (D2-PAK, 6-Leads, Body 8.6x10.2mm, Pitch 1.7mm, Lead Span 14.1mm, IPC Medium Density)
footprint TS5B_L (D2-PAK, 6-Leads, Body 8.6x10.2mm, Pitch 1.7mm, Lead Span 14.1mm, IPC High Density)
footprint TS5B_M (D2-PAK, 6-Leads, Body 8.6x10.2mm, Pitch 1.7mm, Lead Span 14.1mm, IPC Low Density)
pins: 1 ~{SD} (in), 2 IN (power), 3 GND (power), 4 OUT (power), 5 BIAS (in), 6 TAB (power)

## LP3881ES-1.8
designator U?
0.8A Fast-Response Ultra Low Dropout Linear Regulators, 5-pin TO-263; PartNumber: LP3881ES-1.8; Manufacturer: National Semiconductor; PackageTopMarking: NSUZXYTTE#*LP3881ES*-1.8; PowerWise: N; CompType: LDO IC; Published: 4-Dec-2008; DatasheetVersion: Jun-2006; PackageVersion: revD, Apr-2005; PackageReference: TS5B; Publisher: Altium Limited; PackageDescription: TO-263, Molded, .400 x .390 x .180in, 5 Lead, .067in Pitch, Surface Mount; Supplier 1: Farnell; Supplier Part Number 1: 8207070; RoHS: N; PinCount: 5; Code_JEDEC: MO-169-AB; ComponentLink1Description: LP3881 Datasheet; ComponentLink1URL: http://www.national.com/ds/LP/LP3881.pdf; ComponentLink2Description: LP3881 Web Page; ComponentLink2URL: http://www.national.com/pf/LP/LP3881.html; ComponentLink3Description: TS5B Package Page; ComponentLink3URL: http://www.national.com/packaging/folders/ts5b.html
footprint TS5B_N (D2-PAK, 6-Leads, Body 8.6x10.2mm, Pitch 1.7mm, Lead Span 14.1mm, IPC Medium Density)
footprint TS5B_L (D2-PAK, 6-Leads, Body 8.6x10.2mm, Pitch 1.7mm, Lead Span 14.1mm, IPC High Density)
footprint TS5B_M (D2-PAK, 6-Leads, Body 8.6x10.2mm, Pitch 1.7mm, Lead Span 14.1mm, IPC Low Density)
pins: 1 ~{SD} (in), 2 IN (power), 3 GND (power), 4 OUT (power), 5 BIAS (in), 6 TAB (power)

## LP3881ES-1.8/NOPB
designator U?
0.8A Fast-Response Ultra Low Dropout Linear Regulators, 5-pin TO-263, Pb-Free; PartNumber: LP3881ES-1.8/NOPB; Manufacturer: National Semiconductor; PackageTopMarking: NSUZXYTTE#*LP3881ES*-1.8; PowerWise: N; CompType: LDO IC; Published: 1-Mar-2010; DatasheetVersion: Jun-2006; PackageVersion: revD, Apr-2005; PackageReference: TS5B; Publisher: Altium Limited; PackageDescription: TO-263, Molded, .400 x .390 x .180in, 5 Lead, .067in Pitch, Surface Mount; Supplier 1: Digi-Key; Supplier Part Number 1: LP3881ES-1.8/NOPB-ND; RoHS: Y; PinCount: 5; Code_JEDEC: MO-169-AB; ComponentLink1Description: LP3881 Datasheet; ComponentLink1URL: http://www.national.com/ds/LP/LP3881.pdf; ComponentLink2Description: LP3881 Web Page; ComponentLink2URL: http://www.national.com/pf/LP/LP3881.html; ComponentLink3Description: TS5B Package Page; ComponentLink3URL: http://www.national.com/packaging/folders/ts5b.html
footprint TS5B_N (D2-PAK, 6-Leads, Body 8.6x10.2mm, Pitch 1.7mm, Lead Span 14.1mm, IPC Medium Density)
footprint TS5B_L (D2-PAK, 6-Leads, Body 8.6x10.2mm, Pitch 1.7mm, Lead Span 14.1mm, IPC High Density)
footprint TS5B_M (D2-PAK, 6-Leads, Body 8.6x10.2mm, Pitch 1.7mm, Lead Span 14.1mm, IPC Low Density)
pins: 1 ~{SD} (in), 2 IN (power), 3 GND (power), 4 OUT (power), 5 BIAS (in), 6 TAB (power)

## LP3881ESX-1.2
designator U?
0.8A Fast-Response Ultra Low Dropout Linear Regulators, 5-pin TO-263; PartNumber: LP3881ESX-1.2; Manufacturer: National Semiconductor; PackageTopMarking: NSUZXYTTE#*LP3881ES*-1.2; PowerWise: N; CompType: LDO IC; Published: 1-Mar-2010; DatasheetVersion: Jun-2006; PackageVersion: revD, Apr-2005; PackageReference: TS5B; Publisher: Altium Limited; PackageDescription: TO-263, Molded, .400 x .390 x .180in, 5 Lead, .067in Pitch, Surface Mount; RoHS: N; PinCount: 5; Code_JEDEC: MO-169-AB; ComponentLink1Description: LP3881 Datasheet; ComponentLink1URL: http://www.national.com/ds/LP/LP3881.pdf; ComponentLink2Description: LP3881 Web Page; ComponentLink2URL: http://www.national.com/pf/LP/LP3881.html; ComponentLink3Description: TS5B Package Page; ComponentLink3URL: http://www.national.com/packaging/folders/ts5b.html
footprint TS5B_N (D2-PAK, 6-Leads, Body 8.6x10.2mm, Pitch 1.7mm, Lead Span 14.1mm, IPC Medium Density)
footprint TS5B_L (D2-PAK, 6-Leads, Body 8.6x10.2mm, Pitch 1.7mm, Lead Span 14.1mm, IPC High Density)
footprint TS5B_M (D2-PAK, 6-Leads, Body 8.6x10.2mm, Pitch 1.7mm, Lead Span 14.1mm, IPC Low Density)
pins: 1 ~{SD} (in), 2 IN (power), 3 GND (power), 4 OUT (power), 5 BIAS (in), 6 TAB (power)

## LP3881ESX-1.8
designator U?
0.8A Fast-Response Ultra Low Dropout Linear Regulators, 5-pin TO-263; PartNumber: LP3881ESX-1.8; Manufacturer: National Semiconductor; PackageTopMarking: NSUZXYTTE#*LP3881ES*-1.8; PowerWise: N; CompType: LDO IC; Published: 1-Mar-2010; DatasheetVersion: Jun-2006; PackageVersion: revD, Apr-2005; PackageReference: TS5B; Publisher: Altium Limited; PackageDescription: TO-263, Molded, .400 x .390 x .180in, 5 Lead, .067in Pitch, Surface Mount; RoHS: N; PinCount: 5; Code_JEDEC: MO-169-AB; ComponentLink1Description: LP3881 Datasheet; ComponentLink1URL: http://www.national.com/ds/LP/LP3881.pdf; ComponentLink2Description: LP3881 Web Page; ComponentLink2URL: http://www.national.com/pf/LP/LP3881.html; ComponentLink3Description: TS5B Package Page; ComponentLink3URL: http://www.national.com/packaging/folders/ts5b.html
footprint TS5B_N (D2-PAK, 6-Leads, Body 8.6x10.2mm, Pitch 1.7mm, Lead Span 14.1mm, IPC Medium Density)
footprint TS5B_L (D2-PAK, 6-Leads, Body 8.6x10.2mm, Pitch 1.7mm, Lead Span 14.1mm, IPC High Density)
footprint TS5B_M (D2-PAK, 6-Leads, Body 8.6x10.2mm, Pitch 1.7mm, Lead Span 14.1mm, IPC Low Density)
pins: 1 ~{SD} (in), 2 IN (power), 3 GND (power), 4 OUT (power), 5 BIAS (in), 6 TAB (power)

## LP3882EMR-1.2
designator U?
1.5A Fast-Response Ultra Low Dropout Linear Regulators, 8-pin PSOP; PartNumber: LP3882EMR-1.2; Manufacturer: National Semiconductor; PackageTopMarking: NSXYTT*3882E*MR1.2; PowerWise: N; CompType: LDO IC; Published: 4-Dec-2008; DatasheetVersion: Jun-2006; PackageVersion: revD, Dec-2007; PackageReference: MRA08A; Publisher: Altium Limited; PackageDescription: Molded, PSOP .193 x .154 x .058in, 8 Lead, .050in Pitch; Supplier 1: Farnell; Supplier Part Number 1: 1008065; RoHS: N; PinCount: 8; Code_JEDEC: MS-012-AA; ComponentLink1Description: LP3882 Datasheet; ComponentLink1URL: http://www.national.com/ds/LP/LP3882.pdf; ComponentLink2Description: LP3882 Web Page; ComponentLink2URL: http://www.national.com/pf/LP/LP3882.html; ComponentLink3Description: MRA08A Package Page; ComponentLink3URL: http://www.national.com/packaging/folders/mra08a.html
footprint MRA08A_N (SOIC, 8-Leads, Body 4.9x3.9mm, Pitch 1.27mm, Exposed Pad, IPC Medium Density)
footprint MRA08A_L (SOIC, 8-Leads, Body 4.9x3.9mm, Pitch 1.27mm, Exposed Pad, IPC High Density)
footprint MRA08A_M (SOIC, 8-Leads, Body 4.9x3.9mm, Pitch 1.27mm, Exposed Pad, IPC Low Density)
pins: 1 OUT (power), 2 OUT (power), 3 BIAS (in), 4 GND (power), 5 GND (power), 6 ~{SD} (in), 7 IN (power), 8 NC, 9 DAP (power)

## LP3882EMR-1.2/NOPB
designator U?
1.5A Fast-Response Ultra Low Dropout Linear Regulators, 8-pin PSOP, Pb-Free; PartNumber: LP3882EMR-1.2/NOPB; Manufacturer: National Semiconductor; PackageTopMarking: NSXYTT*3882E*MR1.2; PowerWise: N; CompType: LDO IC; Published: 1-Mar-2010; DatasheetVersion: Jun-2006; PackageVersion: revD, Dec-2007; PackageReference: MRA08A; Publisher: Altium Limited; PackageDescription: Molded, PSOP .193 x .154 x .058in, 8 Lead, .050in Pitch; Supplier 1: Digi-Key; Supplier Part Number 1: LP3882EMR-1.2-ND; RoHS: Y; PinCount: 8; Code_JEDEC: MS-012-AA; ComponentLink1Description: LP3882 Datasheet; ComponentLink1URL: http://www.national.com/ds/LP/LP3882.pdf; ComponentLink2Description: LP3882 Web Page; ComponentLink2URL: http://www.national.com/pf/LP/LP3882.html; ComponentLink3Description: MRA08A Package Page; ComponentLink3URL: http://www.national.com/packaging/folders/mra08a.html
footprint MRA08A_N (SOIC, 8-Leads, Body 4.9x3.9mm, Pitch 1.27mm, Exposed Pad, IPC Medium Density)
footprint MRA08A_L (SOIC, 8-Leads, Body 4.9x3.9mm, Pitch 1.27mm, Exposed Pad, IPC High Density)
footprint MRA08A_M (SOIC, 8-Leads, Body 4.9x3.9mm, Pitch 1.27mm, Exposed Pad, IPC Low Density)
pins: 1 OUT (power), 2 OUT (power), 3 BIAS (in), 4 GND (power), 5 GND (power), 6 ~{SD} (in), 7 IN (power), 8 NC, 9 DAP (power)

## LP3882EMR-1.5
designator U?
1.5A Fast-Response Ultra Low Dropout Linear Regulators, 8-pin PSOP; PartNumber: LP3882EMR-1.5; Manufacturer: National Semiconductor; PackageTopMarking: NSXYTT*3882E*MR1.5; PowerWise: N; CompType: LDO IC; Published: 4-Dec-2008; DatasheetVersion: Jun-2006; PackageVersion: revD, Dec-2007; PackageReference: MRA08A; Publisher: Altium Limited; PackageDescription: Molded, PSOP .193 x .154 x .058in, 8 Lead, .050in Pitch; Supplier 1: Farnell; Supplier Part Number 1: 1286787; RoHS: N; PinCount: 8; Code_JEDEC: MS-012-AA; ComponentLink1Description: LP3882 Datasheet; ComponentLink1URL: http://www.national.com/ds/LP/LP3882.pdf; ComponentLink2Description: LP3882 Web Page; ComponentLink2URL: http://www.national.com/pf/LP/LP3882.html; ComponentLink3Description: MRA08A Package Page; ComponentLink3URL: http://www.national.com/packaging/folders/mra08a.html
footprint MRA08A_N (SOIC, 8-Leads, Body 4.9x3.9mm, Pitch 1.27mm, Exposed Pad, IPC Medium Density)
footprint MRA08A_L (SOIC, 8-Leads, Body 4.9x3.9mm, Pitch 1.27mm, Exposed Pad, IPC High Density)
footprint MRA08A_M (SOIC, 8-Leads, Body 4.9x3.9mm, Pitch 1.27mm, Exposed Pad, IPC Low Density)
pins: 1 OUT (power), 2 OUT (power), 3 BIAS (in), 4 GND (power), 5 GND (power), 6 ~{SD} (in), 7 IN (power), 8 NC, 9 DAP (power)

## LP3882EMR-1.5/NOPB
designator U?
1.5A Fast-Response Ultra Low Dropout Linear Regulators, 8-pin PSOP, Pb-Free; PartNumber: LP3882EMR-1.5/NOPB; Manufacturer: National Semiconductor; PackageTopMarking: NSXYTT*3882E*MR1.5; PowerWise: N; CompType: LDO IC; Published: 1-Mar-2010; DatasheetVersion: Jun-2006; PackageVersion: revD, Dec-2007; PackageReference: MRA08A; Publisher: Altium Limited; PackageDescription: Molded, PSOP .193 x .154 x .058in, 8 Lead, .050in Pitch; Supplier 1: Digi-Key; Supplier Part Number 1: LP3882EMR-1.5-ND; RoHS: Y; PinCount: 8; Code_JEDEC: MS-012-AA; ComponentLink1Description: LP3882 Datasheet; ComponentLink1URL: http://www.national.com/ds/LP/LP3882.pdf; ComponentLink2Description: LP3882 Web Page; ComponentLink2URL: http://www.national.com/pf/LP/LP3882.html; ComponentLink3Description: MRA08A Package Page; ComponentLink3URL: http://www.national.com/packaging/folders/mra08a.html
footprint MRA08A_N (SOIC, 8-Leads, Body 4.9x3.9mm, Pitch 1.27mm, Exposed Pad, IPC Medium Density)
footprint MRA08A_L (SOIC, 8-Leads, Body 4.9x3.9mm, Pitch 1.27mm, Exposed Pad, IPC High Density)
footprint MRA08A_M (SOIC, 8-Leads, Body 4.9x3.9mm, Pitch 1.27mm, Exposed Pad, IPC Low Density)
pins: 1 OUT (power), 2 OUT (power), 3 BIAS (in), 4 GND (power), 5 GND (power), 6 ~{SD} (in), 7 IN (power), 8 NC, 9 DAP (power)

## LP3882EMR-1.8
designator U?
1.5A Fast-Response Ultra Low Dropout Linear Regulators, 8-pin PSOP; PartNumber: LP3882EMR-1.8; Manufacturer: National Semiconductor; PackageTopMarking: NSXYTT*3882E*MR1.8; PowerWise: N; CompType: LDO IC; Published: 4-Dec-2008; DatasheetVersion: Jun-2006; PackageVersion: revD, Dec-2007; PackageReference: MRA08A; Publisher: Altium Limited; PackageDescription: Molded, PSOP .193 x .154 x .058in, 8 Lead, .050in Pitch; Supplier 1: Farnell; Supplier Part Number 1: 1286788; RoHS: N; PinCount: 8; Code_JEDEC: MS-012-AA; ComponentLink1Description: LP3882 Datasheet; ComponentLink1URL: http://www.national.com/ds/LP/LP3882.pdf; ComponentLink2Description: LP3882 Web Page; ComponentLink2URL: http://www.national.com/pf/LP/LP3882.html; ComponentLink3Description: MRA08A Package Page; ComponentLink3URL: http://www.national.com/packaging/folders/mra08a.html
footprint MRA08A_N (SOIC, 8-Leads, Body 4.9x3.9mm, Pitch 1.27mm, Exposed Pad, IPC Medium Density)
footprint MRA08A_L (SOIC, 8-Leads, Body 4.9x3.9mm, Pitch 1.27mm, Exposed Pad, IPC High Density)
footprint MRA08A_M (SOIC, 8-Leads, Body 4.9x3.9mm, Pitch 1.27mm, Exposed Pad, IPC Low Density)
pins: 1 OUT (power), 2 OUT (power), 3 BIAS (in), 4 GND (power), 5 GND (power), 6 ~{SD} (in), 7 IN (power), 8 NC, 9 DAP (power)

## LP3882EMR-1.8/NOPB
designator U?
1.5A Fast-Response Ultra Low Dropout Linear Regulators, 8-pin PSOP, Pb-Free; PartNumber: LP3882EMR-1.8/NOPB; Manufacturer: National Semiconductor; PackageTopMarking: NSXYTT*3882E*MR1.8; PowerWise: N; CompType: LDO IC; Published: 1-Mar-2010; DatasheetVersion: Jun-2006; PackageVersion: revD, Dec-2007; PackageReference: MRA08A; Publisher: Altium Limited; PackageDescription: Molded, PSOP .193 x .154 x .058in, 8 Lead, .050in Pitch; Supplier 1: Digi-Key; Supplier Part Number 1: LP3882EMR-1.8/NOPB-ND; RoHS: Y; PinCount: 8; Code_JEDEC: MS-012-AA; ComponentLink1Description: LP3882 Datasheet; ComponentLink1URL: http://www.national.com/ds/LP/LP3882.pdf; ComponentLink2Description: LP3882 Web Page; ComponentLink2URL: http://www.national.com/pf/LP/LP3882.html; ComponentLink3Description: MRA08A Package Page; ComponentLink3URL: http://www.national.com/packaging/folders/mra08a.html
footprint MRA08A_N (SOIC, 8-Leads, Body 4.9x3.9mm, Pitch 1.27mm, Exposed Pad, IPC Medium Density)
footprint MRA08A_L (SOIC, 8-Leads, Body 4.9x3.9mm, Pitch 1.27mm, Exposed Pad, IPC High Density)
footprint MRA08A_M (SOIC, 8-Leads, Body 4.9x3.9mm, Pitch 1.27mm, Exposed Pad, IPC Low Density)
pins: 1 OUT (power), 2 OUT (power), 3 BIAS (in), 4 GND (power), 5 GND (power), 6 ~{SD} (in), 7 IN (power), 8 NC, 9 DAP (power)

## LP3882EMRX-1.2
designator U?
1.5A Fast-Response Ultra Low Dropout Linear Regulators, 8-pin PSOP; PartNumber: LP3882EMRX-1.2; Manufacturer: National Semiconductor; PackageTopMarking: NSXYTT*3882E*MR1.2; PowerWise: N; CompType: LDO IC; Published: 1-Mar-2010; DatasheetVersion: Jun-2006; PackageVersion: revD, Dec-2007; PackageReference: MRA08A; Publisher: Altium Limited; PackageDescription: Molded, PSOP .193 x .154 x .058in, 8 Lead, .050in Pitch; RoHS: N; PinCount: 8; Code_JEDEC: MS-012-AA; ComponentLink1Description: LP3882 Datasheet; ComponentLink1URL: http://www.national.com/ds/LP/LP3882.pdf; ComponentLink2Description: LP3882 Web Page; ComponentLink2URL: http://www.national.com/pf/LP/LP3882.html; ComponentLink3Description: MRA08A Package Page; ComponentLink3URL: http://www.national.com/packaging/folders/mra08a.html
footprint MRA08A_N (SOIC, 8-Leads, Body 4.9x3.9mm, Pitch 1.27mm, Exposed Pad, IPC Medium Density)
footprint MRA08A_L (SOIC, 8-Leads, Body 4.9x3.9mm, Pitch 1.27mm, Exposed Pad, IPC High Density)
footprint MRA08A_M (SOIC, 8-Leads, Body 4.9x3.9mm, Pitch 1.27mm, Exposed Pad, IPC Low Density)
pins: 1 OUT (power), 2 OUT (power), 3 BIAS (in), 4 GND (power), 5 GND (power), 6 ~{SD} (in), 7 IN (power), 8 NC, 9 DAP (power)

## LP3882ES-1.2
designator U?
1.5A Fast-Response Ultra Low Dropout Linear Regulators, 5-pin TO-263; PartNumber: LP3882ES-1.2; Manufacturer: National Semiconductor; PackageTopMarking: NSUZXYTTE#*LP3882ES*-1.2; PowerWise: N; CompType: LDO IC; Published: 4-Dec-2008; DatasheetVersion: Jun-2006; PackageVersion: revD, Apr-2005; PackageReference: TS5B; Publisher: Altium Limited; PackageDescription: TO-263, Molded, .400 x .390 x .180in, 5 Lead, .067in Pitch, Surface Mount; Supplier 1: Farnell; Supplier Part Number 1: 8207119; RoHS: N; PinCount: 5; Code_JEDEC: MO-169-AB; ComponentLink1Description: LP3882 Datasheet; ComponentLink1URL: http://www.national.com/ds/LP/LP3882.pdf; ComponentLink2Description: LP3882 Web Page; ComponentLink2URL: http://www.national.com/pf/LP/LP3882.html; ComponentLink3Description: TS5B Package Page; ComponentLink3URL: http://www.national.com/packaging/folders/ts5b.html
footprint TS5B_N (D2-PAK, 6-Leads, Body 8.6x10.2mm, Pitch 1.7mm, Lead Span 14.1mm, IPC Medium Density)
footprint TS5B_L (D2-PAK, 6-Leads, Body 8.6x10.2mm, Pitch 1.7mm, Lead Span 14.1mm, IPC High Density)
footprint TS5B_M (D2-PAK, 6-Leads, Body 8.6x10.2mm, Pitch 1.7mm, Lead Span 14.1mm, IPC Low Density)
pins: 1 ~{SD} (in), 2 IN (power), 3 GND (power), 4 OUT (power), 5 BIAS (in), 6 TAB (power)